# Altium footprint library Switch.PcbLib: 1 footprints
Each footprint in its own frame and in the unit in brackets; x right, y up, seen from the top. Pads: shape width x height; smd on the part's side, far side on the other; paste and mask are expansions set on the pad; w line width, h text height; cw(c..) or ccw(c..) is an arc to the next point about the centre after c.
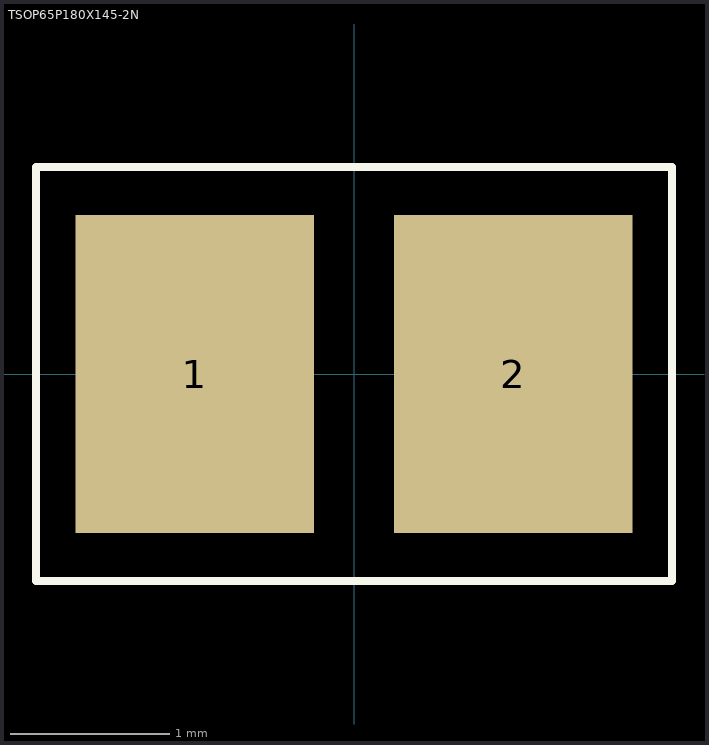
[diagram p0: the footprint, top view; thin cyan lines are the x and y axes]

## TSOP65P180X145-2N [mm] "TSOP, 2-Leads, Body 1.00x0.15mm, Pitch 0.65mm, IPC Medium Density"
height 1.45
pads (2):
  rect 1.5x2 smd: 1(-1,0) 2(1,0)
Top Overlay:
  lines w0.05: -2,-1.3 -2,1.3 2,1.3 2,-1.3 -2,-1.3